# EAGLE library part AP61102Z6-7 (library IC)
DCDC CONV LV BUCK,SOT563,T&R,3K Manufacturer's datasheet <https://www.diodes.com/assets/Datasheets/AP61100-AP61102.pdf>
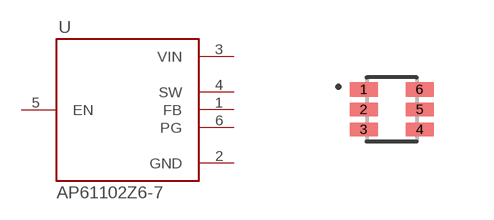
[diagram p35: symbol with the pads of SOT563; footprint SOT563]

Designator prefix U

## AP61102Z6-7 (CREATED_BY: PCBLayout.com; DIGIKEY_PARTNO: 31-AP61102Z6-7DKR-ND; MANUFACTURER: Diodes Incorporated; MPN: AP61102Z6-7; PACKAGE: SOT-563)  [SOT563]
1  FB  out
2  GND  pwr
3  VIN  pwr
4  SW  out
5  EN  in
6  PG  out

## Footprint SOT563 (pad centres in mm)
SOT-563 Source: www.centralsemi.com ..SOT-563PD.pdf
smd 0.7 x 0.35: 1 -0.7,0.5; 2 -0.7,0; 3 -0.7,-0.5; 4 0.7,-0.5; 5 0.7,0; 6 0.7,0.5